# EAGLE library part BAT54CV (library nxp_60)
Two Schottky barrier double diodes Two planar Schottky barrier double diodes with common cathodes and an integrated guard ring for stress protection encapsulated in a SOT666 ultra small and flat lead Surface-Mounted Device (SMD) plastic package. AAL Eindhoven MK
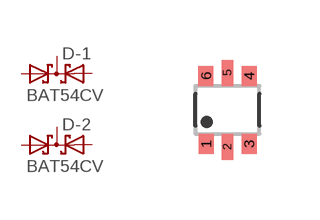
[diagram p96: symbol with the pads of SOT666; footprint SOT666]

Designator prefix D; gates -1=DIODE_SDD_AKKA -2=DIODE_SDD_AKKA

## BAT54CV  [SOT666]
1  -1:A1  pas
2  -1:A2  pas
3  -2:K1K2  pas
4  -2:A2  pas
5  -2:A1  pas
6  -1:K1K2  pas

## Footprint SOT666 (pad centres in mm)
SOT 666 Reflow soldering foorprint Source: Philips - BAS70_1PS7XSB70_SER_8.pdf
smd 0.375 x 0.5: 1 -0.537,-0.85; 3 0.538,-0.85; 4 0.538,0.85; 6 -0.538,0.85
smd 0.3 x 0.65: 2 0,-0.925; 5 0,0.925